# Altium integrated library Infineon_Power_Supply_Voltage_Regulator.IntLib: 346 symbols (part 8 of 16)
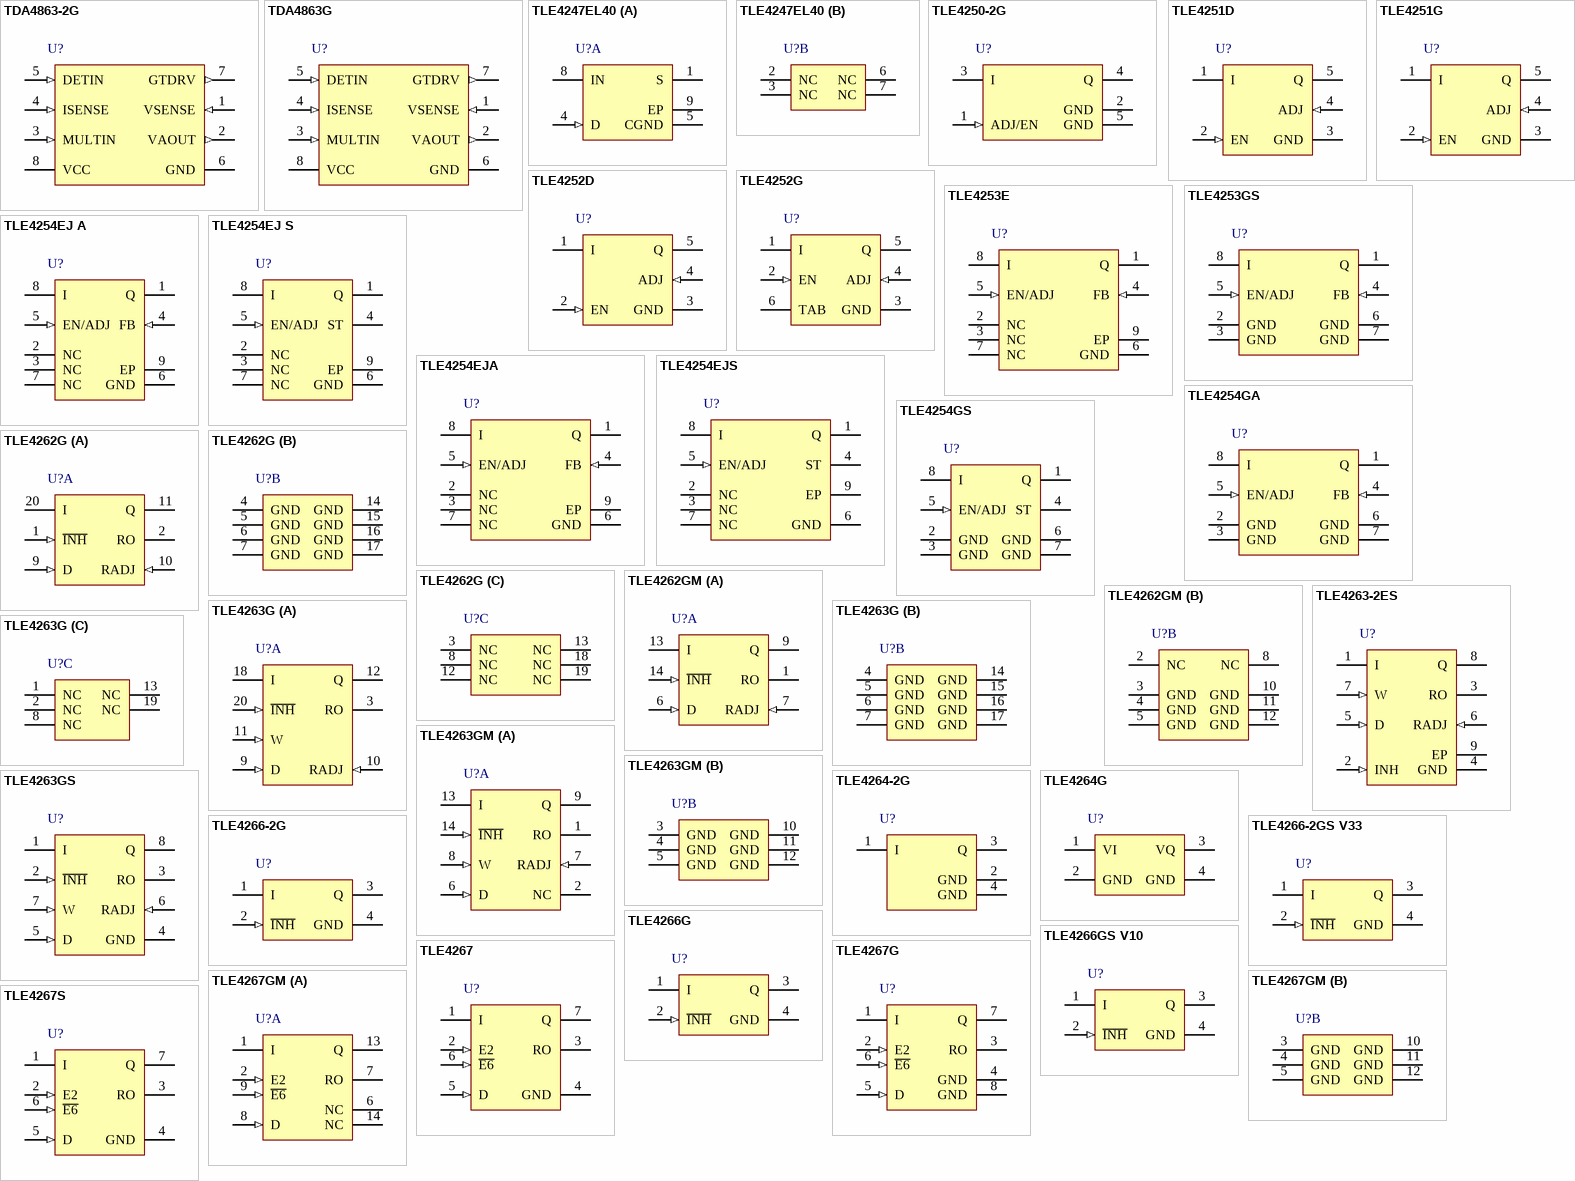
[diagram p16: symbols TDA4863-2G to TLE4267S]

## TLE4263GS
designator U?
5 V Low Drop Voltage Regulator, 5.5 to 45 V Supply, -40 to 150 degC, PG-DSO-8-16, Reel, Green; Manufacturer: Infineon; PartNumber: TLE4263GS; Accuracy: 2 %; Dropout Voltage: 350 mV; Green: TRUE; Max. Output Current: 180 mA; Output Voltage: 5V; Regulator Type: single output; Typical Quiescent Current: 900 uA; DatasheetVersion: Rev. 2.8; PackageVersion: Mar-07; PackageReference: PG-DSO-8-16; PackageDescription: 8-Pin Plastic (Green) Dual Small Outline Package, 4.9 x 3.9 mm Body, 1.27 mm Pitch; Supplier 1: Mouser; Supplier Part Number 1: 726-TLE4263GS; Supplier 2: Digi-Key; Supplier Part Number 2: TLE4263GSTR-ND; Supplier 3: Digi-Key; Supplier Part Number 3: TLE4263GSCT-ND; Supplier 4: Digi-Key; Supplier Part Number 4: TLE4263GSDKR-ND; Halogen-free: TRUE; Operating Range: 5.5 to 45 V; Packing: Reel; Mounting Technology: Surface Mount; ComponentLink1Description: Manufacturer URL; ComponentLink1URL: http://www.infineon.com/; ComponentLink2Description: Datasheet; ComponentLink2URL: http://www.infineon.com/dgdl/TLE4263_DS_28%5B1%5D.pdf?folderId=db3a304318f3fe290118f5a433570040&fileId=db3a30431be39b97011c23b7fde27855&location=en.Products.Automotive_ICs.Linear_Voltage_Regulators_for_Automotive-Applications.Linear_Voltage_Regulators_-_Selection_Table.DATASHEET.TLE4263_DS_28[1].pdf; ComponentLink3Description: Package Specification; ComponentLink3URL: http://www.infineon.com/dgdl/TLE7259-2GE_DS_rev12.pdf?folderId=db3a3043163797a6011666d32a0c0de1&fileId=db3a3043163797a6011666d4dbb80de2&location=en.Products.Automotive_ICs.Automotive_Transceivers.LIN_Transceivers.DATASHEET.TLE7259-2GE_DS_rev12.pdf
footprint INF-PG-DSO-8-16_N (SOP, 8-Leads, Body 4.9x3.9mm, Pitch 1.27mm, IPC Medium Density)
footprint INF-PG-DSO-8-16_L (SOP, 8-Leads, Body 4.9x3.9mm, Pitch 1.27mm, IPC High Density)
footprint INF-PG-DSO-8-16_M (SOP, 8-Leads, Body 4.9x3.9mm, Pitch 1.27mm, IPC Low Density)
pins: 1 I (power) "Input voltage; block to ground directly at the IC with a ceramic capacitor.", 2 ~{INH} (in) "Inhibit; TTL-compatible, low-active input.", 3 RO (oc) "Reset output; open-collector output connected to the output via  a resistor of 30 k ohm", 4 GND (power) "Ground", 5 D (in) "Reset delay; connected to  ground with a capacitor.", 6 RADJ (in) "Reset threshold; to adjust the switching threshold connect a voltage divider (output to GND) to the pin. If this input is connected to GND, reset is triggered at an output voltage of 4.5 V.", 7 W (in) "Watchdog; rising edge triggered  input for monitoring a microcontroller.", 8 Q (power) "5-V output voltage; block to ground with a capacitor,C >= 22 uF, ESR =< 3 ohm at 10 kHz"

## TLE4264-2G
designator U?
5 V Low Drop Fixed Voltage Regulator, 5.5 to 45 V Supply, -40 to 150 degC, PG-SOT223 (SC-73), Reel, Green; Manufacturer: Infineon; PartNumber: TLE4264-2G; Accuracy: 3 %; Dropout Voltage: 220 mV; Green: TRUE; Max. Output Current: 500 mA; Output Voltage: 5V; Regulator Type: single output; Typical Quiescent Current: 40 uA; DatasheetVersion: Rev. 2.6; PackageVersion: Apr-08; PackageReference: PG-SOT223 (SC-73); PackageDescription: 4-Pin Small Outline Transistor Package, 6.5 x 3.5 mm Body, 2.3 mm Pitch; Supplier 1: Mouser; Supplier Part Number 1: 726-TLE42642G; Supplier 2: Digi-Key; Supplier Part Number 2: TLE4264-2GTR-ND; Supplier 3: Digi-Key; Supplier Part Number 3: TLE4264-2GCT-ND; Supplier 4: Digi-Key; Supplier Part Number 4: TLE4264-2GDKR-ND; Operating Range: 5.5 to 45 V; Packing: Reel; Mounting Technology: Surface Mount; ComponentLink1Description: Manufacturer URL; ComponentLink1URL: http://www.infineon.com/; ComponentLink2Description: Datasheet; ComponentLink2URL: http://www.infineon.com/dgdl/TLE4264-2_DS_26.pdf?folderId=db3a304314dca3890115039cf70d0bf0&fileId=db3a304314dca38901150402f8920c01&location=en.Products.Automotive_ICs.Linear_Voltage_Regulators_for_Automotive-Applications.Linear_Voltage_Regulators_-_Selection_Table.DATASHEET.TLE4264-2_DS_26.pdf; ComponentLink3Description: Package Specification; ComponentLink3URL: http://www.infineon.com/dgdl/SOT223-Package_Overview.pdf?folderId=db3a30431936bc4b0119530470b03c3d&fileId=db3a30431936bc4b0119531d40b93c5c
footprint INF-PG-SOT223_SC-73_N (SOT223, 4-Leads, Body 6.5x3.5mm, Pitch 2.3mm, IPC Medium Density)
footprint INF-PG-SOT223_SC-73_L (SOT223, 4-Leads, Body 6.5x3.5mm, Pitch 2.3mm, IPC High Density)
footprint INF-PG-SOT223_SC-73_M (SOT223, 4-Leads, Body 6.5x3.5mm, Pitch 2.3mm, IPC Low Density)
pins: 1 I (power) "Input, block to ground directly at the IC with a ceramic capacitor", 2 GND (power) "Ground", 3 Q (power) "Output, block to ground with capacitor CQ>=10uF, ESR<=2.5 ohm", 4 GND (power) "Ground"

## TLE4264G
designator U?
5 V Low Drop Fixed Voltage Regulator, 5.5 to 45 V Supply, -40 to 150 degC, PG-SOT223 (SC-73), Reel, Green; Manufacturer: Infineon; PartNumber: TLE4264G; Accuracy: 2 %; Dropout Voltage: 250 mV; Green: TRUE; Output Voltage: 5V; Regulator Type: single output; Typical Quiescent Current: 300 uA; DatasheetVersion: Rev. 2.3; PackageVersion: Apr-08; PackageReference: PG-SOT223 (SC-73); PackageDescription: 4-Pin Small Outline Transistor Package, 6.5 x 3.5 mm Body, 2.3 mm Pitch; Supplier 1: Mouser; Supplier Part Number 1: 726-TLE4264G; Supplier 2: Newark; Supplier Part Number 2: 47W3769; Supplier 3: Farnell; Supplier Part Number 3: 2215567; Supplier 4: Digi-Key; Supplier Part Number 4: TLE4264GTR-ND; Supplier 5: Digi-Key; Supplier Part Number 5: TLE4264GCT-ND; Supplier 6: Digi-Key; Supplier Part Number 6: TLE4264GDKR-ND; Operating Range: 5.5 to 45 V; Packing: Reel; Mounting Technology: Surface Mount; ComponentLink1Description: Manufacturer URL; ComponentLink1URL: http://www.infineon.com/; ComponentLink2Description: Datasheet; ComponentLink2URL: http://www.infineon.com/dgdl/TLE4264_DS_23.pdf?folderId=db3a304318f3fe290118f5a433570040&fileId=db3a30431be39b97011c239fb5ff784a&location=en.Products.Automotive_ICs.Linear_Voltage_Regulators_for_Automotive-Applications.Linear_Voltage_Regulators_-_Selection_Table.DATASHEET.TLE4264_DS_23.pdf; ComponentLink3Description: Package Specification; ComponentLink3URL: http://www.infineon.com/dgdl/SOT223-Package_Overview.pdf?folderId=db3a30431936bc4b0119530470b03c3d&fileId=db3a30431936bc4b0119531d40b93c5c
footprint INF-PG-SOT223_SC-73_N (SOT223, 4-Leads, Body 6.5x3.5mm, Pitch 2.3mm, IPC Medium Density)
footprint INF-PG-SOT223_SC-73_L (SOT223, 4-Leads, Body 6.5x3.5mm, Pitch 2.3mm, IPC High Density)
footprint INF-PG-SOT223_SC-73_M (SOT223, 4-Leads, Body 6.5x3.5mm, Pitch 2.3mm, IPC Low Density)
pins: 1 VI (power) "Input voltage;block to ground directly on IC with ceramic capacitor", 2 GND (power) "Ground", 3 VQ (power) "5-V output voltage;block to ground with >= 10 uF capacitor, ESR <= 10 ohm", 4 GND (power) "Ground"

## TLE4266-2G
designator U?
5 V Low Drop Voltage Regulator, 5.5 to 45 V Supply, -40 to 150 degC, PG-SOT223 (SC-73), Reel, Green; Manufacturer: Infineon; PartNumber: TLE4266-2G; Accuracy: 3 %; Dropout Voltage: 250 mV; Green: TRUE; Max. Output Current: 100 mA; Output Voltage: 5V; Regulator Type: single output; Typical Quiescent Current: 300 uA; DatasheetVersion: Rev. 1.4; PackageVersion: Apr-08; PackageReference: PG-SOT223 (SC-73); PackageDescription: 4-Pin Small Outline Transistor Package, 6.5 x 3.5 mm Body, 2.3 mm Pitch; Supplier 1: Mouser; Supplier Part Number 1: 726-TLE42662G; Supplier 2: Digi-Key; Supplier Part Number 2: TLE4266-2GTR-ND; Supplier 3: Digi-Key; Supplier Part Number 3: TLE4266-2GCT-ND; Supplier 4: Digi-Key; Supplier Part Number 4: TLE4266-2GDKR-ND; Operating Range: 5.5 to 45 V; Packing: Reel; Mounting Technology: Surface Mount; ComponentLink1Description: Manufacturer URL; ComponentLink1URL: http://www.infineon.com/; ComponentLink2Description: Datasheet; ComponentLink2URL: http://www.infineon.com/dgdl/TLE4266-2_DS_14%5B1%5D.pdf?folderId=db3a304314dca3890115039cf70d0bf0&fileId=db3a304320d39d59012176f7787178da&location=en.Products.Automotive_ICs.Linear_Voltage_Regulators_for_Automotive-Applications.Linear_Voltage_Regulators_-_Selection_Table.DATASHEET.TLE4266-2_DS_14[1].pdf; ComponentLink3Description: Package Specification; ComponentLink3URL: http://www.infineon.com/dgdl/SOT223-Package_Overview.pdf?folderId=db3a30431936bc4b0119530470b03c3d&fileId=db3a30431936bc4b0119531d40b93c5c
footprint INF-PG-SOT223_SC-73_N (SOT223, 4-Leads, Body 6.5x3.5mm, Pitch 2.3mm, IPC Medium Density)
footprint INF-PG-SOT223_SC-73_L (SOT223, 4-Leads, Body 6.5x3.5mm, Pitch 2.3mm, IPC High Density)
footprint INF-PG-SOT223_SC-73_M (SOT223, 4-Leads, Body 6.5x3.5mm, Pitch 2.3mm, IPC Low Density)
pins: 1 I (power) "Input voltage; block to ground directly at the IC with a ceramic capacitor", 2 ~{INH} (in) "Inhibit input; high level turns IC on, integrated pull-down resistor.", 3 Q (power) "Output voltage; block to ground with a capacitor CQ>=10uF,ESR<=4 ohm", 4 GND (power) "Ground"

## TLE4266-2GS V33
designator U?
3.3 V Low Drop Voltage Regulator, 4.4 to 45 V Supply, -40 to 150 degC, PG-SOT223 (SC-73), Reel, Green; Manufacturer: Infineon; PartNumber: TLE4266-2GS V33; Accuracy: 3 %; Dropout Voltage: 1000 mV; Green: TRUE; Output Voltage: 3.3V; Regulator Type: single output; Typical Quiescent Current: 40 uA; DatasheetVersion: Rev. 1.4; PackageVersion: Apr-08; PackageReference: PG-SOT223 (SC-73); PackageDescription: 4-Pin Small Outline Transistor Package, 6.5 x 3.5 mm Body, 2.3 mm Pitch; Supplier 1: Mouser; Supplier Part Number 1: 726-TLE42662GSV33; Supplier 2: Digi-Key; Supplier Part Number 2: TLE4266-2GS V33TR-ND; Supplier 3: Digi-Key; Supplier Part Number 3: TLE4266-2GS V33CT-ND; Supplier 4: Digi-Key; Supplier Part Number 4: TLE4266-2GS V33DKR-ND; Operating Range: 4.4 to 45 V; Packing: Reel; Mounting Technology: Surface Mount; ComponentLink1Description: Manufacturer URL; ComponentLink1URL: http://www.infineon.com/; ComponentLink2Description: Datasheet; ComponentLink2URL: http://www.infineon.com/dgdl/TLE4266-2_DS_14%5B1%5D.pdf?folderId=db3a304314dca3890115039cf70d0bf0&fileId=db3a304320d39d59012176f7787178da&location=en.Products.Automotive_ICs.Linear_Voltage_Regulators_for_Automotive-Applications.Linear_Voltage_Regulators_-_Selection_Table.DATASHEET.TLE4266-2_DS_14[1].pdf; ComponentLink3Description: Package Specification; ComponentLink3URL: http://www.infineon.com/dgdl/SOT223-Package_Overview.pdf?folderId=db3a30431936bc4b0119530470b03c3d&fileId=db3a30431936bc4b0119531d40b93c5c
footprint INF-PG-SOT223_SC-73_N (SOT223, 4-Leads, Body 6.5x3.5mm, Pitch 2.3mm, IPC Medium Density)
footprint INF-PG-SOT223_SC-73_L (SOT223, 4-Leads, Body 6.5x3.5mm, Pitch 2.3mm, IPC High Density)
footprint INF-PG-SOT223_SC-73_M (SOT223, 4-Leads, Body 6.5x3.5mm, Pitch 2.3mm, IPC Low Density)
pins: 1 I (power) "Input voltage; block to ground directly at the IC with a ceramic capacitor", 2 ~{INH} (in) "Inhibit input; high level turns IC on, integrated pull-down resistor.", 3 Q (power) "Output voltage; block to ground with a capacitor CQ>=10uF,ESR<=4 ohm", 4 GND (power) "Ground"

## TLE4266G
designator U?
5 V Low Drop Voltage Regulator, 5.5 to 45 V Supply, -40 to 150 degC, PG-SOT223 (SC-73), Reel, Green; Manufacturer: Infineon; PartNumber: TLE4266G; Accuracy: 2 %; Dropout Voltage: 250 mV; Green: TRUE; Max. Output Current: 100 mA; Output Voltage: 5V; Regulator Type: single output; Typical Quiescent Current: 300 uA; DatasheetVersion: Rev. 2.5; PackageVersion: Apr-08; PackageReference: PG-SOT223 (SC-73); PackageDescription: 4-Pin Small Outline Transistor Package, 6.5 x 3.5 mm Body, 2.3 mm Pitch; Supplier 1: Mouser; Supplier Part Number 1: 726-TLE4266G; Supplier 2: Newark; Supplier Part Number 2: 47W3770; Supplier 3: Farnell; Supplier Part Number 3: 2215555; Supplier 4: Digi-Key; Supplier Part Number 4: TLE4266GTR-ND; Supplier 5: Digi-Key; Supplier Part Number 5: TLE4266GCT-ND; Supplier 6: Digi-Key; Supplier Part Number 6: TLE4266GDKR-ND; Operating Range: 5.5 to 45 V; Packing: Reel; Mounting Technology: Surface Mount; ComponentLink1Description: Manufacturer URL; ComponentLink1URL: http://www.infineon.com/; ComponentLink2Description: Datasheet; ComponentLink2URL: http://www.infineon.com/dgdl/TLE4266_DS_25%5B1%5D.pdf?folderId=db3a30431be39b97011c1dfc76d7781d&fileId=db3a30431be39b97011c1dfda483781e&location=en.Products.Automotive_ICs.Linear_Voltage_Regulators_for_Automotive-Applications.Linear_Voltage_Regulators_-_Selection_Table.DATASHEET.TLE4266_DS_25[1].pdf; ComponentLink3Description: Package Specification; ComponentLink3URL: http://www.infineon.com/dgdl/SOT223-Package_Overview.pdf?folderId=db3a30431936bc4b0119530470b03c3d&fileId=db3a30431936bc4b0119531d40b93c5c
footprint INF-PG-SOT223_SC-73_N (SOT223, 4-Leads, Body 6.5x3.5mm, Pitch 2.3mm, IPC Medium Density)
footprint INF-PG-SOT223_SC-73_L (SOT223, 4-Leads, Body 6.5x3.5mm, Pitch 2.3mm, IPC High Density)
footprint INF-PG-SOT223_SC-73_M (SOT223, 4-Leads, Body 6.5x3.5mm, Pitch 2.3mm, IPC Low Density)
pins: 1 I (power) "Input voltage; block to ground directly at the IC with a ceramic capacitor", 2 ~{INH} (in) "Inhibit input; high level turns IC on, integrated pull-down resistor.", 3 Q (power) "Output voltage; block to ground with a capacitor CQ>=10uF,ESR<=4 ohm", 4 GND (power) "Ground"

## TLE4266GS V10
designator U?
10 V Low Drop Voltage Regulator, 10.5 to 45 V Supply, -40 to 150 degC, PG-SOT223 (SC-73), Reel, Green; Manufacturer: Infineon; PartNumber: TLE4266GS V10; Accuracy: 2 %; Dropout Voltage: 280 mV; Green: TRUE; Max. Output Current: 100 mA; Output Voltage: 10V; Regulator Type: single output; Typical Quiescent Current: 300 uA; DatasheetVersion: Rev. 2.5; PackageVersion: Apr-08; PackageReference: PG-SOT223 (SC-73); PackageDescription: 4-Pin Small Outline Transistor Package, 6.5 x 3.5 mm Body, 2.3 mm Pitch; Supplier 1: Mouser; Supplier Part Number 1: 726-TLE4266GSV10; Supplier 2: Digi-Key; Supplier Part Number 2: TLE4266GS V10-ND; Operating Range: 10.5 to 45 V; Packing: Reel; Mounting Technology: Surface Mount; ComponentLink1Description: Manufacturer URL; ComponentLink1URL: http://www.infineon.com/; ComponentLink2Description: Datasheet; ComponentLink2URL: http://www.infineon.com/dgdl/TLE4266_DS_25%5B1%5D.pdf?folderId=db3a30431be39b97011c1dfc76d7781d&fileId=db3a30431be39b97011c1dfda483781e&location=en.Products.Automotive_ICs.Linear_Voltage_Regulators_for_Automotive-Applications.Linear_Voltage_Regulators_-_Selection_Table.DATASHEET.TLE4266_DS_25[1].pdf; ComponentLink3Description: Package Specification; ComponentLink3URL: http://www.infineon.com/dgdl/SOT223-Package_Overview.pdf?folderId=db3a30431936bc4b0119530470b03c3d&fileId=db3a30431936bc4b0119531d40b93c5c
footprint INF-PG-SOT223_SC-73_N (SOT223, 4-Leads, Body 6.5x3.5mm, Pitch 2.3mm, IPC Medium Density)
footprint INF-PG-SOT223_SC-73_L (SOT223, 4-Leads, Body 6.5x3.5mm, Pitch 2.3mm, IPC High Density)
footprint INF-PG-SOT223_SC-73_M (SOT223, 4-Leads, Body 6.5x3.5mm, Pitch 2.3mm, IPC Low Density)
pins: 1 I (power) "Input voltage; block to ground directly at the IC with a ceramic capacitor", 2 ~{INH} (in) "Inhibit input; high level turns IC on, integrated pull-down resistor.", 3 Q (power) "Output voltage; block to ground with a capacitor CQ>=10uF,ESR<=4 ohm", 4 GND (power) "Ground"

## TLE4267
designator U?
5 V Low Drop Voltage Regulator, 5.5 to 40 V Supply, -40 to 150 degC, PG-TO220-7-11, Tube, Green; Manufacturer: Infineon; PartNumber: TLE4267; Accuracy: 2 %; Dropout Voltage: 300 mV; Green: TRUE; Max. Output Current: 400 mA; Output Voltage: 5V; Regulator Type: single output; Typical Quiescent Current: 1300 uA; DatasheetVersion: Rev. 2.51; PackageVersion: Jul-07; PackageReference: PG-TO220-7-11; PackageDescription: 7-Pin Plastic (Green) Transistor Single Outline Package, 10 x 9.25 mm Body, 1.27 mm Pitch; Supplier 1: Mouser; Supplier Part Number 1: 726-TLE4267; Supplier 2: Digi-Key; Supplier Part Number 2: TLE4267-ND; Halogen-free: TRUE; Operating Range: 5.5 to 40 V; Packing: Tube; Mounting Technology: Through Hole; ComponentLink1Description: Manufacturer URL; ComponentLink1URL: http://www.infineon.com/; ComponentLink2Description: Datasheet; ComponentLink2URL: http://www.infineon.com/dgdl/TLE4267-Data-Sheet-V251-Infineon.pdf?folderId=db3a304318f3fe290118f5a433570040&fileId=db3a30431be39b97011c27280ae977ce&location=en.Products.Automotive_ICs.Linear_Voltage_Regulators_for_Automotive-Applications.Linear_Voltage_Regulators_-_Selection_Table.DATASHEET.TLE4267-Data-Sheet-V251-Infineon.pdf; ComponentLink3Description: Package Specification; ComponentLink3URL: http://www.infineon.com/dgdl/TLE5205-2_DS_11%5B1%5D.pdf?folderId=db3a30431b3e89eb011bb632994f065b&fileId=db3a30431f848401011fc747c7a0797f&sId=db3a30433d68e984013d7d43135b5b6a
footprint INF-PG-TO220-7-11 (FM, 7-Leads, Body 10x9.25mm, Pitch 1.27mm)
pins: 1 I (power) "Input; block to ground directly at the IC by a ceramic capacitor", 2 E2 (in) "Inhibit; device is turned on by High signal on this pin; internal pull-down resistor of 100 k ohm", 3 RO (oc) "Reset Output; open-collector output internally connected to the output via a resistor of 30 k ohm", 4 GND (power) "Ground; connected to rear of chip", 5 D (in) "Reset Delay; connect via capacitor to GND", 6 ~{E6} (in) "Hold; see Table 1 for function; this input is connected to output voltage via a pull-up resistor of 50 k ohm", 7 Q (power) "5-V Output; block to GND with 22-uF capacitor, ESR < 3 ohm"

## TLE4267G
designator U?
5 V Low Drop Voltage Regulator, 5.5 to 40 V Supply, -40 to 150 degC, PG-TO263-7-1, Reel, Green; Manufacturer: Infineon; PartNumber: TLE4267G; Accuracy: 2 %; Dropout Voltage: 300 mV; Green: TRUE; Max. Output Current: 400 mA; Output Voltage: 5V; Regulator Type: single output; Typical Quiescent Current: 1300 uA; DatasheetVersion: Rev. 2.51; PackageVersion: May-07; PackageReference: PG-TO263-7-1; PackageDescription: 7-Pin Plastic (Green) Transistor Single Outline Package, 9.25 x 10 mm Body, 1.27 mm Pitch; Supplier 1: Mouser; Supplier Part Number 1: 726-TLE4267G; Supplier 2: Digi-Key; Supplier Part Number 2: TLE4267GINTR-ND; Supplier 3: Digi-Key; Supplier Part Number 3: TLE4267GINCT-ND; Supplier 4: Digi-Key; Supplier Part Number 4: TLE4267GINDKR-ND; Halogen-free: TRUE; Operating Range: 5.5 to 40 V; Packing: Reel; Mounting Technology: Surface Mount; ComponentLink1Description: Manufacturer URL; ComponentLink1URL: http://www.infineon.com/; ComponentLink2Description: Datasheet; ComponentLink2URL: http://www.infineon.com/dgdl/TLE4267-Data-Sheet-V251-Infineon.pdf?folderId=db3a304318f3fe290118f5a433570040&fileId=db3a30431be39b97011c27280ae977ce&location=en.Products.Automotive_ICs.Linear_Voltage_Regulators_for_Automotive-Applications.Linear_Voltage_Regulators_-_Selection_Table.DATASHEET.TLE4267-Data-Sheet-V251-Infineon.pdf; ComponentLink3Description: Package Specification; ComponentLink3URL: http://www.infineon.com/dgdl/TLE5205-2_DS_11%5B1%5D.pdf?folderId=db3a30431b3e89eb011bb632994f065b&fileId=db3a30431f848401011fc747c7a0797f&sId=db3a30433d68e984013d7d43135b5b6a
footprint INF-PG-TO263-7-1_N (DPAK, 8-Leads, Body 10x9.25mm, Pitch 1.27mm, IPC Medium Density)
footprint INF-PG-TO263-7-1_L (DPAK, 8-Leads, Body 10x9.25mm, Pitch 1.27mm, IPC High Density)
footprint INF-PG-TO263-7-1_M (DPAK, 8-Leads, Body 10x9.25mm, Pitch 1.27mm, IPC Low Density)
pins: 1 I (power) "Input; block to ground directly at the IC by a ceramic capacitor", 2 E2 (in) "Inhibit; device is turned on by High signal on this pin; internal pull-down resistor of 100 k ohm", 3 RO (oc) "Reset Output; open-collector output internally connected to the output via a resistor of 30 k ohm", 4 GND (power) "Ground; connected to rear of chip", 5 D (in) "Reset Delay; connect via capacitor to GND", 6 ~{E6} (in) "Hold; see Table 1 for function; this input is connected to output voltage via a pull-up resistor of 50 k ohm", 7 Q (power) "5-V Output; block to GND with 22-uF capacitor, ESR < 3 ohm", 8 GND (power)

## TLE4267GM
designator U?
5 V Low Drop Voltage Regulator, 5.5 to 40 V Supply, -40 to 150 degC, PG-DSO-14-30, Reel, Green; Manufacturer: Infineon; PartNumber: TLE4267GM; Accuracy: 2 %; Dropout Voltage: 300 mV; Green: TRUE; Max. Output Current: 400 mA; Output Voltage: 5V; Regulator Type: single output; Typical Quiescent Current: 1300 uA; DatasheetVersion: Rev. 2.51; PackageVersion: Oct-07; PackageReference: PG-DSO-14-30; PackageDescription: 14-Pin Plastic (Green) Dual Small Outline Package, 8.65 x 3.9 mm Body, 1.27 mm Pitch; Supplier 1: Mouser; Supplier Part Number 1: 726-TLE4267GM; Supplier 2: Digi-Key; Supplier Part Number 2: TLE4267GMTR-ND; Supplier 3: Digi-Key; Supplier Part Number 3: TLE4267GMCT-ND; Supplier 4: Digi-Key; Supplier Part Number 4: TLE4267GMDKR-ND; Halogen-free: TRUE; Operating Range: 5.5 to 40 V; Packing: Reel; Mounting Technology: Surface Mount; ComponentLink1Description: Manufacturer URL; ComponentLink1URL: http://www.infineon.com/; ComponentLink2Description: Datasheet; ComponentLink2URL: http://www.infineon.com/dgdl/TLE4267-Data-Sheet-V251-Infineon.pdf?folderId=db3a304318f3fe290118f5a433570040&fileId=db3a30431be39b97011c27280ae977ce&location=en.Products.Automotive_ICs.Linear_Voltage_Regulators_for_Automotive-Applications.Linear_Voltage_Regulators_-_Selection_Table.DATASHEET.TLE4267-Data-Sheet-V251-Infineon.pdf; ComponentLink3Description: Package Specification; ComponentLink3URL: http://www.infineon.com/dgdl/TLE4299v33_DS_11%5B1%5D.pdf?folderId=db3a304318f3fe290118f5a433570040&fileId=db3a30431c48a312011c55c733b0022b&sId=db3a30433d68e984013d8b6475e4267b
footprint INF-PG-DSO-14-30_N (SOP, 14-Leads, Body 8.65x3.9mm, Pitch 1.27mm, IPC Medium Density)
footprint INF-PG-DSO-14-30_L (SOP, 14-Leads, Body 8.65x3.9mm, Pitch 1.27mm, IPC High Density)
footprint INF-PG-DSO-14-30_M (SOP, 14-Leads, Body 8.65x3.9mm, Pitch 1.27mm, IPC Low Density)
part A pins: 1 I (power) "Input; block to ground directly at the IC by a ceramic capacitor", 2 E2 (in) "Inhibit; device is turned on by High signal on this pin; internal  pull-down resistor of 100 k ohm", 6 NC "Not Connected", 7 RO (oc) "Reset Output; open-collector output internally connected to the output via a resistor of 30 k ohm", 8 D (in) "Reset Delay; connect with capacitor to GND for setting delay", 9 ~{E6} (in) "Hold; see Table 1 for function; this input is connected to output voltage via a pull-up resistor of 50 k ohm", 13 Q (power) "5-V Output; block to GND with 22-uF capacitor, ESR =< 3 ohm", 14 NC "Not Connected"
part B pins: 3 GND (power) "Ground; connected to rear of chip", 4 GND (power) "Ground; connected to rear of chip", 5 GND (power) "Ground; connected to rear of chip", 10 GND (power) "Ground; connected to rear of chip", 11 GND (power) "Ground; connected to rear of chip", 12 GND (power) "Ground; connected to rear of chip"

## TLE4267S
designator U?
5 V Low Drop Voltage Regulator, 5.5 to 40 V Supply, -40 to 150 degC, PG-TO220-7-12, Tube, Green; Manufacturer: Infineon; PartNumber: TLE4267S; Accuracy: 2 %; Dropout Voltage: 300 mV; Green: TRUE; Max. Output Current: 400 mA; Output Voltage: 5V; Regulator Type: single output; Typical Quiescent Current: 1300 uA; DatasheetVersion: Rev. 2.51; PackageVersion: Jul-07; PackageReference: PG-TO220-7-12; PackageDescription: 7-Pin Plastic (Green) Transistor Single Outline Package, 10 x 9.25 mm Body, 1.27 mm Pitch; Supplier 1: Mouser; Supplier Part Number 1: 726-TLE4267S; Supplier 2: Digi-Key; Supplier Part Number 2: TLE4267SIN-ND; Halogen-free: TRUE; Operating Range: 5.5 to 40 V; Packing: Tube; Mounting Technology: Through Hole; ComponentLink1Description: Manufacturer URL; ComponentLink1URL: http://www.infineon.com/; ComponentLink2Description: Datasheet; ComponentLink2URL: http://www.infineon.com/dgdl/TLE4267-Data-Sheet-V251-Infineon.pdf?folderId=db3a304318f3fe290118f5a433570040&fileId=db3a30431be39b97011c27280ae977ce&location=en.Products.Automotive_ICs.Linear_Voltage_Regulators_for_Automotive-Applications.Linear_Voltage_Regulators_-_Selection_Table.DATASHEET.TLE4267-Data-Sheet-V251-Infineon.pdf; ComponentLink3Description: Package Specification; ComponentLink3URL: http://www.infineon.com/dgdl/TLE5205-2_DS_11%5B1%5D.pdf?folderId=db3a30431b3e89eb011bb632994f065b&fileId=db3a30431f848401011fc747c7a0797f&sId=db3a30433d68e984013d7d43135b5b6a
footprint INF-PG-TO220-7-12 (FM, 7-Leads, Body 10x4.4mm, Pitch 1.27mm)
pins: 1 I (power) "Input; block to ground directly at the IC by a ceramic capacitor", 2 E2 (in) "Inhibit; device is turned on by High signal on this pin; internal pull-down resistor of 100 k ohm", 3 RO (oc) "Reset Output; open-collector output internally connected to the output via a resistor of 30 k ohm", 4 GND (power) "Ground; connected to rear of chip", 5 D (in) "Reset Delay; connect via capacitor to GND", 6 ~{E6} (in) "Hold; see Table 1 for function; this input is connected to output voltage via a pull-up resistor of 50 k ohm", 7 Q (power) "5-V Output; block to GND with 22-uF capacitor, ESR < 3 ohm"

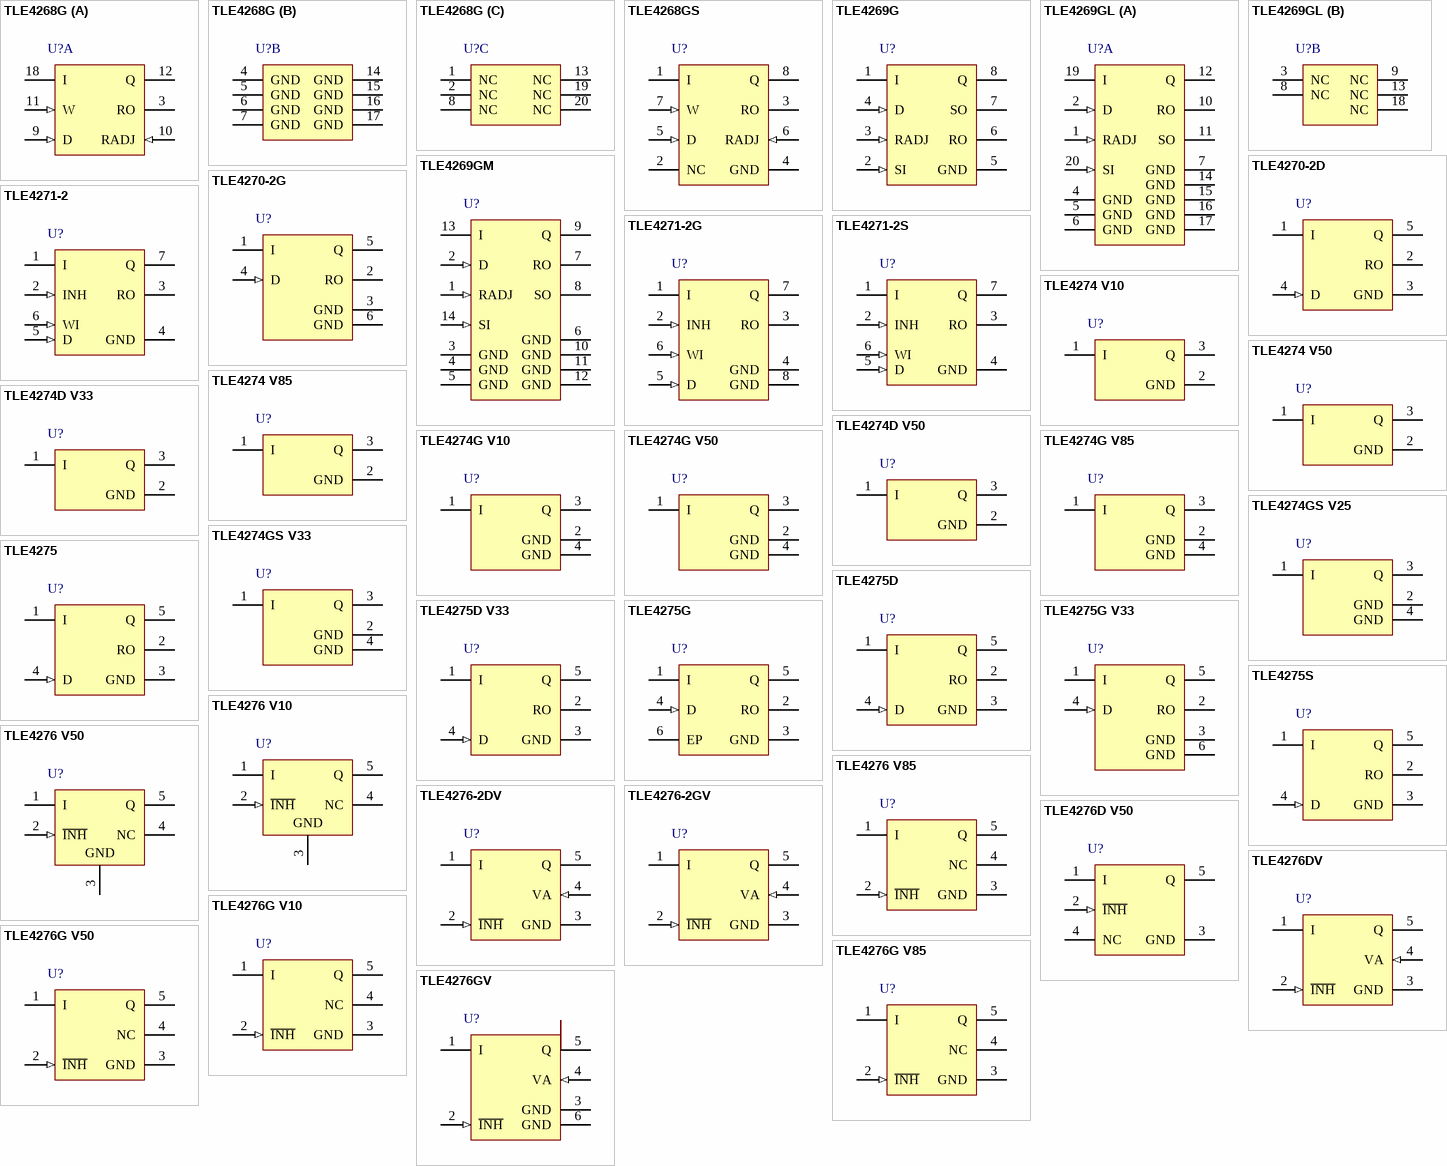
[diagram p5: symbols TLE4268G to TLE4276GV]

## TLE4268G
designator U?
5 V Low Drop Fixed Voltage Regulator, 5.5 to 45 V Supply, -40 to 150 degC, PG-DSO-20-35, Reel, Green; Manufacturer: Infineon; PartNumber: TLE4268G; Accuracy: 2 %; Dropout Voltage: 250 mV; Green: TRUE; Max. Output Current: 150 mA; Output Voltage: 5V; Regulator Type: single output; Typical Quiescent Current: 300 uA; DatasheetVersion: Rev. 1.5; PackageVersion: Mar-07; PackageReference: PG-DSO-20-35; PackageDescription: 20-Pin Plastic (Green) Dual Small Outline Package, 12.7 x 7.5 mm Body, 1.27 mm Pitch; Supplier 1: Mouser; Supplier Part Number 1: 726-TLE4268G; Supplier 2: Digi-Key; Supplier Part Number 2: TLE4268GTR-ND; Supplier 3: Digi-Key; Supplier Part Number 3: TLE4268GCT-ND; Supplier 4: Digi-Key; Supplier Part Number 4: TLE4268GDKR-ND; Halogen-free: TRUE; Operating Range: 5.5 to 45 V; Packing: Reel; Mounting Technology: Surface Mount; ComponentLink1Description: Manufacturer URL; ComponentLink1URL: http://www.infineon.com/; ComponentLink2Description: Datasheet; ComponentLink2URL: http://www.infineon.com/dgdl/TLE4268_DS_15.pdf?folderId=db3a304318f3fe290118f5a433570040&fileId=db3a30431be39b97011c2730bd3177da&location=en.Products.Automotive_ICs.Linear_Voltage_Regulators_for_Automotive-Applications.Linear_Voltage_Regulators_-_Selection_Table.DATASHEET.TLE4268_DS_15.pdf; ComponentLink3Description: Package Specification; ComponentLink3URL: http://www.infineon.com/dgdl/TLE4263_DS_28%5B1%5D.pdf?folderId=db3a304318f3fe290118f5a433570040&fileId=db3a30431be39b97011c23b7fde27855&sId=db3a30433d68e984013d81aeba1073f4
footprint INF-PG-DSO-20-35_N (SOP, 20-Leads, Body 12.7x7.5mm, Pitch 1.27mm, IPC Medium Density)
footprint INF-PG-DSO-20-35_L (SOP, 20-Leads, Body 12.7x7.5mm, Pitch 1.27mm, IPC High Density)
footprint INF-PG-DSO-20-35_M (SOP, 20-Leads, Body 12.7x7.5mm, Pitch 1.27mm, IPC Low Density)
part A pins: 3 RO (oc) "Reset output; the open collector output is connected to the 5-V output via an integrated resistor of 30 k ohm.", 9 D (in) "Reset delay; connect a capacitor to ground for delay time adjustment.", 10 RADJ (in) "Reset switching threshold; for setting the switching threshold, output to ground with voltage divider. If this input is connected to ground, the reset is triggered at an output voltage of 4.5 V.", 11 W (in) "Watchdog input; positive-edge-triggered input for monitoring a microcontroller.", 12 Q (power) "5-V output voltage; block to ground with 22 uF capacitor, ESR < 3 ohm.", 18 I (power) "Input voltage; block to ground directly at the IC with a ceramic capacitor."
part B pins: 4 GND (power) "Ground", 5 GND (power) "Ground", 6 GND (power) "Ground", 7 GND (power) "Ground", 14 GND (power) "Ground", 15 GND (power) "Ground", 16 GND (power) "Ground", 17 GND (power) "Ground"
part C pins: 1 NC "Not connected", 2 NC "Not connected", 8 NC "Not connected", 13 NC "Not connected", 19 NC "Not connected", 20 NC "Not connected"

## TLE4268GS
designator U?
5 V Low Drop Fixed Voltage Regulator, 5.5 to 45 V Supply, -40 to 150 degC, PG-DSO-8-16, Reel, Green; Manufacturer: Infineon; PartNumber: TLE4268GS; Accuracy: 2 %; Dropout Voltage: 250 mV; Green: TRUE; Max. Output Current: 150 mA; Output Voltage: 5V; Regulator Type: single output; Typical Quiescent Current: 300 uA; DatasheetVersion: Rev. 1.5; PackageVersion: Mar-07; PackageReference: PG-DSO-8-16; PackageDescription: 8-Pin Plastic (Green) Dual Small Outline Package, 4.9 x 3.9 mm Body, 1.27 mm Pitch; Supplier 1: Mouser; Supplier Part Number 1: 726-TLE4268GS; Supplier 2: Farnell; Supplier Part Number 2: 2215554; Supplier 3: Digi-Key; Supplier Part Number 3: TLE4268GSTR-ND; Supplier 4: Digi-Key; Supplier Part Number 4: TLE4268GSCT-ND; Supplier 5: Digi-Key; Supplier Part Number 5: TLE4268GSDKR-ND; Halogen-free: TRUE; Operating Range: 5.5 to 45 V; Packing: Reel; Mounting Technology: Surface Mount; ComponentLink1Description: Manufacturer URL; ComponentLink1URL: http://www.infineon.com/; ComponentLink2Description: Datasheet; ComponentLink2URL: http://www.infineon.com/dgdl/TLE4268_DS_15.pdf?folderId=db3a304318f3fe290118f5a433570040&fileId=db3a30431be39b97011c2730bd3177da&location=en.Products.Automotive_ICs.Linear_Voltage_Regulators_for_Automotive-Applications.Linear_Voltage_Regulators_-_Selection_Table.DATASHEET.TLE4268_DS_15.pdf; ComponentLink3Description: Package Specification; ComponentLink3URL: http://www.infineon.com/dgdl/TLE7259-2GE_DS_rev12.pdf?folderId=db3a3043163797a6011666d32a0c0de1&fileId=db3a3043163797a6011666d4dbb80de2&location=en.Products.Automotive_ICs.Automotive_Transceivers.LIN_Transceivers.DATASHEET.TLE7259-2GE_DS_rev12.pdf
footprint INF-PG-DSO-8-16_N (SOP, 8-Leads, Body 4.9x3.9mm, Pitch 1.27mm, IPC Medium Density)
footprint INF-PG-DSO-8-16_L (SOP, 8-Leads, Body 4.9x3.9mm, Pitch 1.27mm, IPC High Density)
footprint INF-PG-DSO-8-16_M (SOP, 8-Leads, Body 4.9x3.9mm, Pitch 1.27mm, IPC Low Density)
pins: 1 I (power) "Input voltage", 2 NC "Not connected", 3 RO (oc) "Reset output", 4 GND (power) "Ground", 5 D (in) "Reset delay", 6 RADJ (in) "Reset switching threshold", 7 W (in) "Watchdog input", 8 Q (power) "5 V output voltage"

## TLE4269G
designator U?
5 V Low Drop Fixed Voltage Regulator, 5.5 to 45 V Supply, -40 to 150 degC, PG-DSO-8-16, Reel, Green; Manufacturer: Infineon; PartNumber: TLE4269G; Accuracy: 2 %; Dropout Voltage: 250 mV; Green: TRUE; Max. Output Current: 100 mA; Output Voltage: 5V; Regulator Type: single output; Typical Quiescent Current: 240 uA; DatasheetVersion: Rev. 2.4; PackageVersion: Mar-07; PackageReference: PG-DSO-8-16; PackageDescription: 8-Pin Plastic (Green) Dual Small Outline Package, 4.9 x 3.9 mm Body, 1.27 mm Pitch; Supplier 1: Mouser; Supplier Part Number 1: 726-TLE4269G; Supplier 2: Digi-Key; Supplier Part Number 2: TLE4269GTR-ND; Supplier 3: Digi-Key; Supplier Part Number 3: TLE4269GCT-ND; Supplier 4: Digi-Key; Supplier Part Number 4: TLE4269GDKR-ND; Halogen-free: TRUE; Operating Range: 5.5 to 45 V; Packing: Reel; Mounting Technology: Surface Mount; ComponentLink1Description: Manufacturer URL; ComponentLink1URL: http://www.infineon.com/; ComponentLink2Description: Datasheet; ComponentLink2URL: http://www.infineon.com/dgdl/TLE4269_DS_24%5B1%5D.pdf?folderId=db3a304318f3fe290118f5a433570040&fileId=db3a30431be39b97011c273830fb77e4&location=en.Products.Automotive_ICs.Linear_Voltage_Regulators_for_Automotive-Applications.Linear_Voltage_Regulators_-_Selection_Table.DATASHEET.TLE4269_DS_24[1].pdf; ComponentLink3Description: Package Specification; ComponentLink3URL: http://www.infineon.com/dgdl/TLE7259-2GE_DS_rev12.pdf?folderId=db3a3043163797a6011666d32a0c0de1&fileId=db3a3043163797a6011666d4dbb80de2&location=en.Products.Automotive_ICs.Automotive_Transceivers.LIN_Transceivers.DATASHEET.TLE7259-2GE_DS_rev12.pdf
footprint INF-PG-DSO-8-16_N (SOP, 8-Leads, Body 4.9x3.9mm, Pitch 1.27mm, IPC Medium Density)
footprint INF-PG-DSO-8-16_L (SOP, 8-Leads, Body 4.9x3.9mm, Pitch 1.27mm, IPC High Density)
footprint INF-PG-DSO-8-16_M (SOP, 8-Leads, Body 4.9x3.9mm, Pitch 1.27mm, IPC Low Density)
pins: 1 I (power) "Input for compensating line influences, a capacitor to GND close to the IC terminals is  recommended", 2 SI (in) "Sense Input connect the voltage to be monitored; connect to Q if the sense comparator is not needed", 3 RADJ (in) "Reset Threshold Adjust connect an external voltage divider to adjust reset threshold; connect to GND for using internal threshold", 4 D (in) "Reset Delay Timing connect a ceramic capacitor to GND for adjusting the reset delay time; leave open if the reset function is not needed", 5 GND (power) "Ground", 6 RO (oc) "Reset Output open collector output; external pull-up resistor required, respecting values given in  Item 5.6.5; leave open if the reset function is not needed", 7 SO (oc) "Sense Output open collector output; external pull-up resistor required, respecting values given in  Item 5.8.6; leave open if the sense comparator is not needed", 8 Q (power) "Output block to GND with a capacitor close to the IC terminals, respecting the values given  for its capacitance C Q and ESR in "Functional Range" on Page 9"

## TLE4269GL
designator U?
5 V Low Drop Fixed Voltage Regulator, 5.5 to 45 V Supply, -40 to 150 degC, PG-DSO-20-35, Reel, Green; Manufacturer: Infineon; PartNumber: TLE4269GL; Accuracy: 2 %; Dropout Voltage: 250 mV; Green: TRUE; Max. Output Current: 100 mA; Output Voltage: 5V; Regulator Type: single output; Typical Quiescent Current: 240 uA; DatasheetVersion: Rev. 2.4; PackageVersion: Mar-07; PackageReference: PG-DSO-20-35; PackageDescription: 20-Pin Plastic (Green) Dual Small Outline Package, 12.7 x 7.5 mm Body, 1.27 mm Pitch; Supplier 1: Mouser; Supplier Part Number 1: 726-TLE4269GL; Supplier 2: Digi-Key; Supplier Part Number 2: TLE4269GL-ND; Halogen-free: TRUE; Operating Range: 5.5 to 45 V; Packing: Reel; Mounting Technology: Surface Mount; ComponentLink1Description: Manufacturer URL; ComponentLink1URL: http://www.infineon.com/; ComponentLink2Description: Datasheet; ComponentLink2URL: http://www.infineon.com/dgdl/TLE4269_DS_24%5B1%5D.pdf?folderId=db3a304318f3fe290118f5a433570040&fileId=db3a30431be39b97011c273830fb77e4&location=en.Products.Automotive_ICs.Linear_Voltage_Regulators_for_Automotive-Applications.Linear_Voltage_Regulators_-_Selection_Table.DATASHEET.TLE4269_DS_24[1].pdf; ComponentLink3Description: Package Specification; ComponentLink3URL: http://www.infineon.com/dgdl/TLE4263_DS_28%5B1%5D.pdf?folderId=db3a304318f3fe290118f5a433570040&fileId=db3a30431be39b97011c23b7fde27855&sId=db3a30433d68e984013d81aeba1073f4
footprint INF-PG-DSO-20-35_N (SOP, 20-Leads, Body 12.7x7.5mm, Pitch 1.27mm, IPC Medium Density)
footprint INF-PG-DSO-20-35_L (SOP, 20-Leads, Body 12.7x7.5mm, Pitch 1.27mm, IPC High Density)
footprint INF-PG-DSO-20-35_M (SOP, 20-Leads, Body 12.7x7.5mm, Pitch 1.27mm, IPC Low Density)
part A pins: 1 RADJ (in) "Reset Threshold Adjust; if not needed connect to ground.", 2 D (in) "Reset Delay; to select delay time, connect to GND via external capacitor.", 4 GND (power) "Ground", 5 GND (power) "Ground", 6 GND (power) "Ground", 7 GND (power) "Ground", 10 RO (oc) "Reset Output; the open-collector output is internally linked to Q via a 20 k ohm pull-up resistor. Keep open, if not needed.", 11 SO (oc) "Sense Output; the open-collector output is internally linked to the output via a 20 k ohm pull-up resistor. Keep open, if not needed.", 12 Q (power) "Output; connect to GND with a 10 uF capacitor, ESR < 10 ohm.", 14 GND (power) "Ground", 15 GND (power) "Ground", 16 GND (power) "Ground", 17 GND (power) "Ground", 19 I (power) "Input; block directly at the IC by a ceramic capacitor.", 20 SI (in) "Sense Input; if not needed connect to Q."
part B pins: 3 NC, 8 NC, 9 NC, 13 NC, 18 NC

## TLE4269GM
designator U?
5 V Low Drop Fixed Voltage Regulator, 5.5 to 45 V Supply, -40 to 150 degC, PG-DSO-14-30, Reel, Green; Manufacturer: Infineon; PartNumber: TLE4269GM; Accuracy: 2 %; Dropout Voltage: 250 mV; Green: TRUE; Max. Output Current: 100 mA; Output Voltage: 5V; Regulator Type: single output; Typical Quiescent Current: 240 uA; DatasheetVersion: Rev. 2.4; PackageVersion: Oct-07; PackageReference: PG-DSO-14-30; PackageDescription: 14-Pin Plastic (Green) Dual Small Outline Package, 8.65 x 3.9 mm Body, 1.27 mm Pitch; Supplier 1: Mouser; Supplier Part Number 1: 726-TLE4269GM; Supplier 2: Digi-Key; Supplier Part Number 2: TLE4269GMTR-ND; Supplier 3: Digi-Key; Supplier Part Number 3: TLE4269GMCT-ND; Supplier 4: Digi-Key; Supplier Part Number 4: TLE4269GMDKR-ND; Halogen-free: TRUE; Operating Range: 5.5 to 45 V; Packing: Reel; Mounting Technology: Surface Mount; ComponentLink1Description: Manufacturer URL; ComponentLink1URL: http://www.infineon.com/; ComponentLink2Description: Datasheet; ComponentLink2URL: http://www.infineon.com/dgdl/TLE4269_DS_24%5B1%5D.pdf?folderId=db3a304318f3fe290118f5a433570040&fileId=db3a30431be39b97011c273830fb77e4&location=en.Products.Automotive_ICs.Linear_Voltage_Regulators_for_Automotive-Applications.Linear_Voltage_Regulators_-_Selection_Table.DATASHEET.TLE4269_DS_24[1].pdf; ComponentLink3Description: Package Specification; ComponentLink3URL: http://www.infineon.com/dgdl/TLE4299v33_DS_11%5B1%5D.pdf?folderId=db3a304318f3fe290118f5a433570040&fileId=db3a30431c48a312011c55c733b0022b&sId=db3a30433d68e984013d8b6475e4267b
footprint INF-PG-DSO-14-30_N (SOP, 14-Leads, Body 8.65x3.9mm, Pitch 1.27mm, IPC Medium Density)
footprint INF-PG-DSO-14-30_L (SOP, 14-Leads, Body 8.65x3.9mm, Pitch 1.27mm, IPC High Density)
footprint INF-PG-DSO-14-30_M (SOP, 14-Leads, Body 8.65x3.9mm, Pitch 1.27mm, IPC Low Density)
pins: 1 RADJ (in) "Reset Threshold Adjust; if not needed connect to GND.", 2 D (in) "Reset Delay; to select delay time; connect to GND via capacitor.", 3 GND (power) "Ground", 4 GND (power) "Ground", 5 GND (power) "Ground", 6 GND (power) "Ground", 7 RO (oc) "Reset Output; open-collector output, internally connected to Q via a pull-up resistor of 20 k ohm. Keep open, if not needed.", 8 SO (oc) "Sense Output; open-collector output, internally connected to Q via a 20 k ohm pull-up resistor. Keep open, if not needed.", 9 Q (power) "5-V Output; connect to GND with a 10 uF capacitor, ESR < 10 ohm.", 10 GND (power) "Ground", 11 GND (power) "Ground", 12 GND (power) "Ground", 13 I (power) "Input; block to GND directly at the IC with a ceramic capacitor.", 14 SI (in) "Sense Input; if not needed connect to Q."

## TLE4270-2D
designator U?
Low Drop Fixed Voltage Regulator, 6 to 42 V Supply, 5 V Output, -40 to 150 degC, PG-TO252-5-11, Reel, Green; Manufacturer: Infineon; PartNumber: TLE4270-2D; Accuracy: 2 %; Dropout Voltage: 350 mV; Green: TRUE; Max. Output Current: 550 mA; Operating Range: 6 to 42 V; Output Voltage: 5V; Regulator Type: single output; Typical Quiescent Current: 1000 uA; DatasheetVersion: Rev. 1.8; PackageVersion: Nov-10; PackageReference: PG-TO252-5-11; PackageDescription: 5-Pin Plastic (Green) Transistor Single Outline Package, 6.5 x 6.12 mm Body, 1.14 mm Pitch; Supplier 1: Mouser; Supplier Part Number 1: 726-TLE42702D; Supplier 2: Digi-Key; Supplier Part Number 2: TLE4270-2DTR-ND; Supplier 3: Digi-Key; Supplier Part Number 3: TLE4270-2DCT-ND; Supplier 4: Digi-Key; Supplier Part Number 4: TLE4270-2DDKR-ND; Halogen-free: TRUE; Packing: Reel; Mounting Technology: Surface Mount; ComponentLink1Description: Manufacturer URL; ComponentLink1URL: http://www.infineon.com/; ComponentLink2Description: Datasheet; ComponentLink2URL: http://www.infineon.com/dgdl/TLE4270-2_DS_18.pdf?folderId=db3a304318f3fe290118f5a433570040&fileId=db3a30431b3e89eb011ba19cb0ff0bd9&location=en.Products.Automotive_ICs.Linear_Voltage_Regulators_for_Automotive-Applications.Linear_Voltage_Regulators_-_Selection_Table.DATASHEET.TLE4270-2_DS_18.pdf; ComponentLink3Description: Package Specification; ComponentLink3URL: http://www.infineon.com/dgdl/TLE7276-Data+Sheet-+v1_11.pdf?folderId=db3a304412b407950112b408e8c90004&fileId=db3a304412b407950112b436c53f66c8&sId=db3a30433db6f09f013dc0e43c0428c1
footprint INF-PG-TO252-5-11_N (DPAK, 5-Leads, Body 6.5x6.12mm, Pitch 1.14mm, IPC Medium Density)
footprint INF-PG-TO252-5-11_L (DPAK, 5-Leads, Body 6.5x6.12mm, Pitch 1.14mm, IPC High Density)
footprint INF-PG-TO252-5-11_M (DPAK, 5-Leads, Body 6.5x6.12mm, Pitch 1.14mm, IPC Low Density)
pins: 1 I (power) "Input, for compensating line influences, a capacitor to GND close to the IC terminals is  recommended", 2 RO (oc) "Reset Output, open collector output; external pull-up resistor to a positive potential required; leave open if the reset function is not needed", 3 GND (power) "Ground, connect to heatsink area", 4 D (in) "Reset Delay Timing, connect a ceramic capacitor to GND for adjusting the reset delay time; leave open if the reset function is not needed", 5 Q (power) "Output, block to GND with a capacitor close to the IC terminals, respecting the values given  for its capacitance CQ and ESR in the table “Functional Range?on Page 8"

## TLE4270-2G
designator U?
Low Drop Fixed Voltage Regulator, 6 to 42 V Supply, 5 V Output, -40 to 150 degC, PG-TO263-5-1, Reel, Green; Manufacturer: Infineon; PartNumber: TLE4270-2G; Accuracy: 2 %; Dropout Voltage: 350 mV; Green: TRUE; Max. Output Current: 550 mA; Operating Range: 6 to 42 V; Output Voltage: 5V; Regulator Type: single output; Typical Quiescent Current: 1000 uA; DatasheetVersion: Rev. 1.8; PackageVersion: Sep-08; PackageReference: PG-TO263-5-1; PackageDescription: 5-Pin Plastic (Green) Transistor Single Outline Package, 10 x 9.25 mm Body, 1.7 mm Pitch; Supplier 1: Mouser; Supplier Part Number 1: 726-TLE42702G; Supplier 2: Newark; Supplier Part Number 2: 47W3772; Supplier 3: Farnell; Supplier Part Number 3: 2215559; Supplier 4: Digi-Key; Supplier Part Number 4: TLE4270-2GTR-ND; Supplier 5: Digi-Key; Supplier Part Number 5: TLE4270-2GCT-ND; Supplier 6: Digi-Key; Supplier Part Number 6: TLE4270-2GDKR-ND; Halogen-free: TRUE; Packing: Reel; Mounting Technology: Surface Mount; ComponentLink1Description: Manufacturer URL; ComponentLink1URL: http://www.infineon.com/; ComponentLink2Description: Datasheet; ComponentLink2URL: http://www.infineon.com/dgdl/TLE4270-2_DS_18.pdf?folderId=db3a304314dca3890115039cf70d0bf0&fileId=db3a3043163797a601163915ad4d01c9&location=en.Products.Automotive_ICs.Linear_Voltage_Regulators_for_Automotive-Applications.Linear_Voltage_Regulators_-_Selection_Table.DATASHEET.TLE4270-2_DS_18.pdf; ComponentLink3Description: Package Specification; ComponentLink3URL: http://www.infineon.com/dgdl/TLE4675_DS10.pdf?folderId=db3a30431ddc9372011e26863f92474e&fileId=db3a30431ff9881501201fa645654e52&sId=db3a30433d68e984013d8b6677a5267d
footprint INF-PG-TO263-5-1_N (DPAK, 5-Leads, Body 10x9.25mm, Pitch 1.7mm, IPC Medium Density)
footprint INF-PG-TO263-5-1_L (DPAK, 5-Leads, Body 10x9.25mm, Pitch 1.7mm, IPC High Density)
footprint INF-PG-TO263-5-1_M (DPAK, 5-Leads, Body 10x9.25mm, Pitch 1.7mm, IPC Low Density)
pins: 1 I (power) "Input", 2 RO (oc) "Reset Output", 3 GND (power) "Ground", 4 D (in) "Reset Delay", 5 Q (power) "Output", 6 GND (power) "Ground"

## TLE4271-2
designator U?
Low Drop Fixed Voltage Regulator, 6 to 40 V Supply, 5 V Output, -40 to 150 degC, PG-TO220-7-11, Tube, Green; Manufacturer: Infineon; PartNumber: TLE4271-2; Accuracy: 2 %; Dropout Voltage: 350 mV; Green: TRUE; Max. Output Current: 550 mA; Operating Range: 6 to 40 V; Output Voltage: 5V; Regulator Type: single output; Typical Quiescent Current: 800 uA; DatasheetVersion: Rev. 2.7; PackageVersion: Jul-07; PackageReference: PG-TO220-7-11; PackageDescription: 7-Pin Plastic (Green) Transistor Single Outline Package, 10 x 9.25 mm Body, 1.27 mm Pitch; Supplier 1: Mouser; Supplier Part Number 1: 726-TLE42712; Supplier 2: Digi-Key; Supplier Part Number 2: TLE4271-2-ND; Halogen-free: TRUE; Packing: Tube; Mounting Technology: Through Hole; ComponentLink1Description: Manufacturer URL; ComponentLink1URL: http://www.infineon.com/; ComponentLink2Description: Datasheet; ComponentLink2URL: http://www.infineon.com/dgdl/TLE4271-2_DS_27%5B1%5D.pdf?folderId=db3a304318f3fe290118f5a433570040&fileId=db3a30431be39b97011c2db25df47935&location=en.Products.Automotive_ICs.Linear_Voltage_Regulators_for_Automotive-Applications.Linear_Voltage_Regulators_-_Selection_Table.DATASHEET.TLE4271-2_DS_27[1].pdf; ComponentLink3Description: Package Specification; ComponentLink3URL: http://www.infineon.com/dgdl/TLE5205-2_DS_11%5B1%5D.pdf?folderId=db3a30431b3e89eb011bb632994f065b&fileId=db3a30431f848401011fc747c7a0797f&sId=db3a30433d68e984013d7d43135b5b6a
footprint INF-PG-TO220-7-11 (FM, 7-Leads, Body 10x9.25mm, Pitch 1.27mm)
pins: 1 I (power) "Input; block to ground directly on the IC with ceramic capacitor.", 2 INH (in) "Inhibit", 3 RO (oc) "Reset Output; the open collector output is connected to the 5 V output via an integrated resistor of 30 kOhm.", 4 GND (power) "Ground", 5 D (in) "Reset Delay; connect a capacitor to ground for delay time adjustment.", 6 WI (in) "Watchdog Input", 7 Q (power) "5-V Output; block to ground with 22 uF capacitor, ESR < 3 Ohm."

## TLE4271-2G
designator U?
Low Drop Fixed Voltage Regulator, 6 to 40 V Supply, 5 V Output, -40 to 150 degC, PG-TO263-7-1, Reel, Green; Manufacturer: Infineon; PartNumber: TLE4271-2G; Accuracy: 2 %; Dropout Voltage: 350 mV; Green: TRUE; Max. Output Current: 550 mA; Operating Range: 6 to 40 V; Output Voltage: 5V; Regulator Type: single output; Typical Quiescent Current: 800 uA; DatasheetVersion: Rev. 2.7; PackageVersion: May-07; PackageReference: PG-TO263-7-1; PackageDescription: 7-Pin Plastic (Green) Transistor Single Outline Package, 9.25 x 10 mm Body, 1.27 mm Pitch; Supplier 1: Mouser; Supplier Part Number 1: 726-TLE42712G; Supplier 2: Newark; Supplier Part Number 2: 47W3773; Supplier 3: Farnell; Supplier Part Number 3: 2215558; Supplier 4: Digi-Key; Supplier Part Number 4: TLE4271-2GINTR-ND; Supplier 5: Digi-Key; Supplier Part Number 5: TLE4271-2GINCT-ND; Supplier 6: Digi-Key; Supplier Part Number 6: TLE4271-2GINDKR-ND; Halogen-free: TRUE; Packing: Reel; Mounting Technology: Surface Mount; ComponentLink1Description: Manufacturer URL; ComponentLink1URL: http://www.infineon.com/; ComponentLink2Description: Datasheet; ComponentLink2URL: http://www.infineon.com/dgdl/TLE4271-2_DS_27%5B1%5D.pdf?folderId=db3a304318f3fe290118f5a433570040&fileId=db3a30431be39b97011c2db25df47935&location=en.Products.Automotive_ICs.Linear_Voltage_Regulators_for_Automotive-Applications.Linear_Voltage_Regulators_-_Selection_Table.DATASHEET.TLE4271-2_DS_27[1].pdf; ComponentLink3Description: Package Specification; ComponentLink3URL: http://www.infineon.com/dgdl/TLE5205-2_DS_11%5B1%5D.pdf?folderId=db3a30431b3e89eb011bb632994f065b&fileId=db3a30431f848401011fc747c7a0797f&sId=db3a30433d68e984013d7d43135b5b6a
footprint INF-PG-TO263-7-1_N (DPAK, 8-Leads, Body 10x9.25mm, Pitch 1.27mm, IPC Medium Density)
footprint INF-PG-TO263-7-1_L (DPAK, 8-Leads, Body 10x9.25mm, Pitch 1.27mm, IPC High Density)
footprint INF-PG-TO263-7-1_M (DPAK, 8-Leads, Body 10x9.25mm, Pitch 1.27mm, IPC Low Density)
pins: 1 I (power) "Input; block to ground directly on the IC with ceramic capacitor.", 2 INH (in) "Inhibit", 3 RO (oc) "Reset Output; the open collector output is connected to the 5 V output via an integrated resistor of 30 k ohm.", 4 GND (power) "Ground", 5 D (in) "Reset Delay; connect a capacitor to ground for delay time adjustment.", 6 WI (in) "Watchdog Input", 7 Q (power) "5-V Output; block to ground with 22 uF capacitor, ESR < 3 ohm.", 8 GND (power)

## TLE4271-2S
designator U?
Low Drop Fixed Voltage Regulator, 6 to 40 V Supply, 5 V Output, -40 to 150 degC, PG-TO220-7-12, Tube, Green; Manufacturer: Infineon; PartNumber: TLE4271-2S; Accuracy: 2 %; Dropout Voltage: 350 mV; Green: TRUE; Max. Output Current: 550 mA; Operating Range: 6 to 40 V; Output Voltage: 5V; Regulator Type: single output; Typical Quiescent Current: 800 uA; DatasheetVersion: Rev. 2.7; PackageVersion: Jul-07; PackageReference: PG-TO220-7-12; PackageDescription: 7-Pin Plastic (Green) Transistor Single Outline Package, 10 x 9.25 mm Body, 1.27 mm Pitch; Supplier 1: Mouser; Supplier Part Number 1: 726-TLE42712S; Supplier 2: Digi-Key; Supplier Part Number 2: TLE4271-2S-ND; Halogen-free: TRUE; Packing: Tube; Mounting Technology: Through Hole; ComponentLink1Description: Manufacturer URL; ComponentLink1URL: http://www.infineon.com/; ComponentLink2Description: Datasheet; ComponentLink2URL: http://www.infineon.com/dgdl/TLE4271-2_DS_27%5B1%5D.pdf?folderId=db3a304318f3fe290118f5a433570040&fileId=db3a30431be39b97011c2db25df47935&location=en.Products.Automotive_ICs.Linear_Voltage_Regulators_for_Automotive-Applications.Linear_Voltage_Regulators_-_Selection_Table.DATASHEET.TLE4271-2_DS_27[1].pdf; ComponentLink3Description: Package Specification; ComponentLink3URL: http://www.infineon.com/dgdl/TLE5205-2_DS_11%5B1%5D.pdf?folderId=db3a30431b3e89eb011bb632994f065b&fileId=db3a30431f848401011fc747c7a0797f&sId=db3a30433d68e984013d7d43135b5b6a
footprint INF-PG-TO220-7-12 (FM, 7-Leads, Body 10x4.4mm, Pitch 1.27mm)
pins: 1 I (power) "Input; block to ground directly on the IC with ceramic capacitor.", 2 INH (in) "Inhibit", 3 RO (oc) "Reset Output; the open collector output is connected to the 5 V output via an integrated resistor of 30 kOhm.", 4 GND (power) "Ground", 5 D (in) "Reset Delay; connect a capacitor to ground for delay time adjustment.", 6 WI (in) "Watchdog Input", 7 Q (power) "5-V Output; block to ground with 22 uF capacitor, ESR < 3 Ohm."